# EAGLE library part TDA7264 (library Audio-Power-amlifier V.2.0)
The TDA7264 is class AB dual Audio power amplifier assembled in the Multiwatt package, specially designed for high quality sound application as Hi-Fi music centers and stereo TV sets.
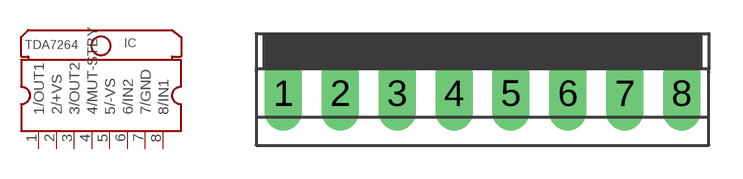
[diagram p173: symbol with the pads of MULTIWATT8; footprint MULTIWATT8]

Designator prefix IC

## TDA7264  [MULTIWATT8]
1  1/OUT1  out
2  2/+VS  pwr
3  3/OUT2  out
4  4/MUT-STBY  in
5  5/-VS  pwr
6  6/IN2  in
7  7/GND  pwr
8  8/IN1  in

## Footprint MULTIWATT8 (pad centres in mm)
drill 0.8 pad 1.676 long: 1 -8.89,0; 2 -6.35,0; 3 -3.81,0; 4 -1.27,0; 5 1.27,0; 6 3.81,0; 7 6.35,0; 8 8.89,0